# Altium footprint library PcbLib.PcbLib: 7 footprints
Each footprint in its own frame and in the unit in brackets; x right, y up, seen from the top. Pads: shape width x height; smd on the part's side, far side on the other; paste and mask are expansions set on the pad; w line width, h text height; cw(c..) or ccw(c..) is an arc to the next point about the centre after c.
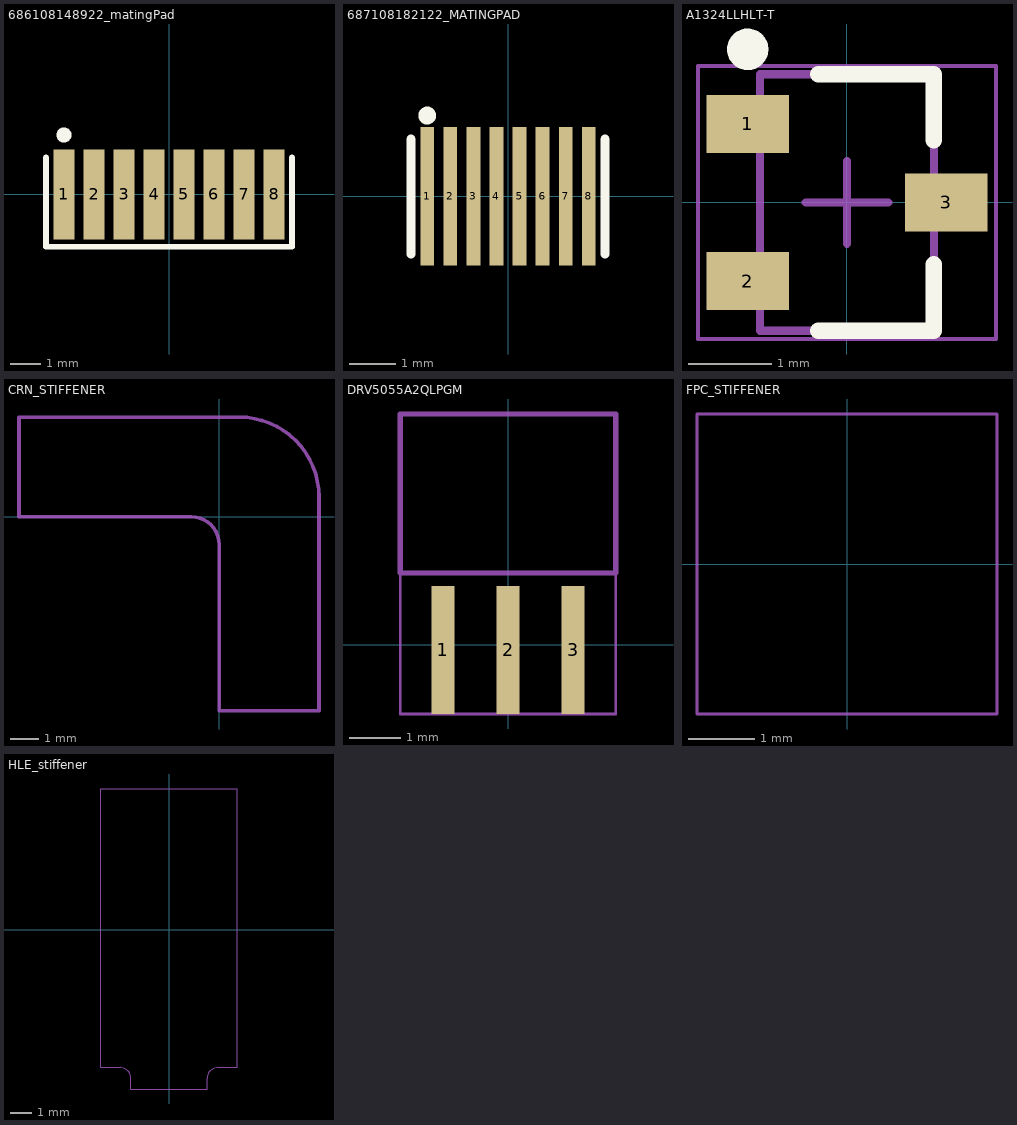
[diagram p0: the footprints below, top view; thin cyan lines are the x and y axes]

## 686108148922_matingPad [mm]
pads (8):
  rect 0.7x3 smd mask+0: 1(-3.5,0) 2(-2.5,0) 3(-1.5,0) 4(-0.5,0) 5(0.5,0) 6(1.5,0) 7(2.5,0) 8(3.5,0)
Top Overlay:
  circle w0.25: c-3.5,1.975 r0.125
  lines w0.2: -4.1,-1.75 4.1,-1.75 ; -4.1,-1.725 -4.1,1.225 ; 4.1,-1.725 4.1,1.225

## 687108182122_MATINGPAD [mm]
pads (8):
  rect 0.3x3 smd mask+0: 1(-1.75,0) 2(-1.25,0) 3(-0.75,0) 4(-0.25,0) 5(0.25,0) 6(0.75,0) 7(1.25,0) 8(1.75,0)
Top Overlay:
  circle w0.25: c-1.75,1.75 r0.068
  lines w0.2: -2.1,-1.25 -2.1,1.239 ; 2.1,-1.25 2.1,1.239

## A1324LLHLT-T [mm]
pads (3):
  rect 1x0.7 smd: 1(-1.2,0.95) 2(-1.2,-0.95) 3(1.2,0)
Top Overlay:
  circle w0.25: c-1.2,1.85 r0.125
  lines w0.2: -0.35,-1.55 1.05,-1.55 1.05,-0.75 ; -0.35,1.55 1.05,1.55 1.05,0.75
Component Body:
  lines w0.1: -1.05,-1.55 -1.05,1.55 1.05,1.55 1.05,-1.55 -1.05,-1.55
Component Outline:
  lines w0.05: -1.8,-1.65 -1.8,1.65 1.8,1.65 1.8,-1.65 -1.8,-1.65
  lines w0.1: -0.5,0 0.5,0 ; 0,-0.5 0,0.5
3D body "SOT95P294X113-3L.step": height 1.13, standoff 0, extent -1.5,-1.55 1.5,1.55

## CRN_STIFFENER [mm]
Component Outline:
  lines w0.127: 3.55,-2.95 3.55,-1.8 ; -7.15,0 -1,0 cw(c-1,-1) 0,-1 0,-6.93 3.56,-6.93 3.56,0.71 ccw(c0.71,0.71) 0.71,3.56 -7.15,3.56 -7.15,0
3D body: height 0.25, standoff 0, extent -1.1,0 -1.1,0
3D body: height 0.15, standoff 0, extent -7.15,-6.95 3.55,3.55
3D body: height 0.25, standoff 0, extent 3.1,3.3 3.1,3.3

## DRV5055A2QLPGM [mm]
pads (3):
  rect 0.45x2.5 smd: 1(-1.27,-0.1) 2(0,-0.1) 3(1.27,-0.1)
Component Body:
  lines w0.1: -2.1,1.4 -2.1,4.5 2.1,4.5 2.1,1.4 -2.1,1.4
Component Outline:
  lines w0.05: -2.1,-1.35 2.1,-1.35 2.1,4.5 -2.1,4.5 -2.1,-1.35
3D body: height 1.57, standoff 0, extent -2.1,1.422 2.1,4.5

## FPC_STIFFENER [mm]
Component Outline:
  lines w0.05: -2.25,-2.25 2.25,-2.25 2.25,2.25 -2.25,2.25 -2.25,-2.25
3D body: height 0.25, standoff 0, extent 3,-2 3,-2
3D body: height 0.15, standoff 0, extent -2.25,-2.25 2.25,2.25

## HLE_stiffener [mm]
Component Outline:
  lines w0.05: -3.175,-6.416 -2.278,-6.416 cw(c-2.278,-6.916) -1.778,-6.916 -1.778,-7.416 1.778,-7.416 1.778,-6.916 cw(c2.278,-6.916) 2.278,-6.416 3.175,-6.416 3.175,6.538 -3.175,6.538 -3.175,-6.416
3D body: height 0.15, standoff 0, extent -3.175,-7.416 3.175,6.538